# EAGLE library part HC-05 (library dragCustom)
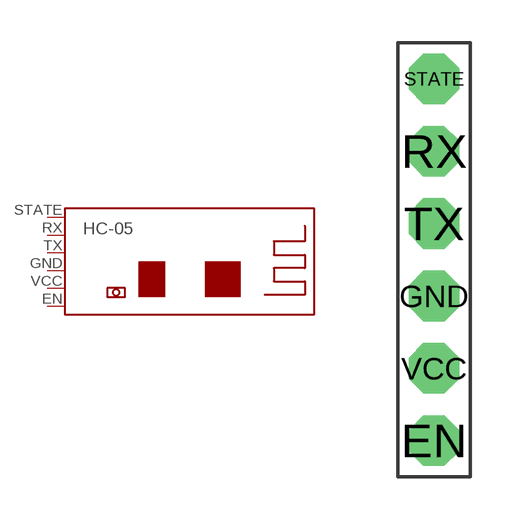
[diagram p10: symbol with the pads of HC-05; footprint HC-05]

Designator prefix -

## HC-05  [HC-05]
EN  EN
GND  GND
RX  RX
STATE  STATE
TX  TX
VCC  VCC

## Footprint HC-05 (pad centres in mm)
drill 0.9 pad 1.778 octagon: EN -17.78,-6.35; GND -17.78,-1.27; RX -17.78,3.81; STATE -17.78,6.35; TX -17.78,1.27; VCC -17.78,-3.81